# EAGLE library part LME49720 (library ICs)
LME49720 Dual High Performance, High Fidelity Audio Operational Amplifier. 0.00003% THD, +/-17V.
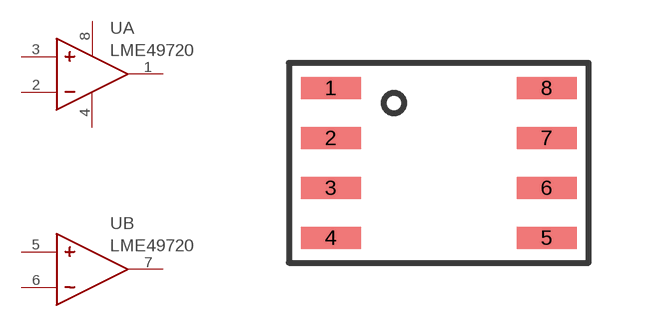
[diagram p54: symbol with the pads of SO8; footprint SO8]

Designator prefix U; gates A=OPAMP_SUPPLIES B=OPAMP_NOSUPPLIES

## LME49720MA/NOPB (DIGIKEY: LME49720MAX/NOPBCT-ND; HEIGHT: 2; PRICE_PER: 2.15; VALUE: LME49720)  [SO8]
1  A:OUT
2  A:-
3  A:+
4  A:V-
5  B:+
6  B:-
7  B:OUT
8  A:V+

## Footprint SO8 (pad centres in mm)
smd 1.5 x 0.55: 1 -2.7,1.875; 2 -2.7,0.625; 3 -2.7,-0.625; 4 -2.7,-1.875; 5 2.7,-1.875; 6 2.7,-0.625; 7 2.7,0.625; 8 2.7,1.875